# Altium schematic symbol library MyLib.SchLib: 65 symbols
Pins are listed as number, name and electrical type; pins without a type are passive.

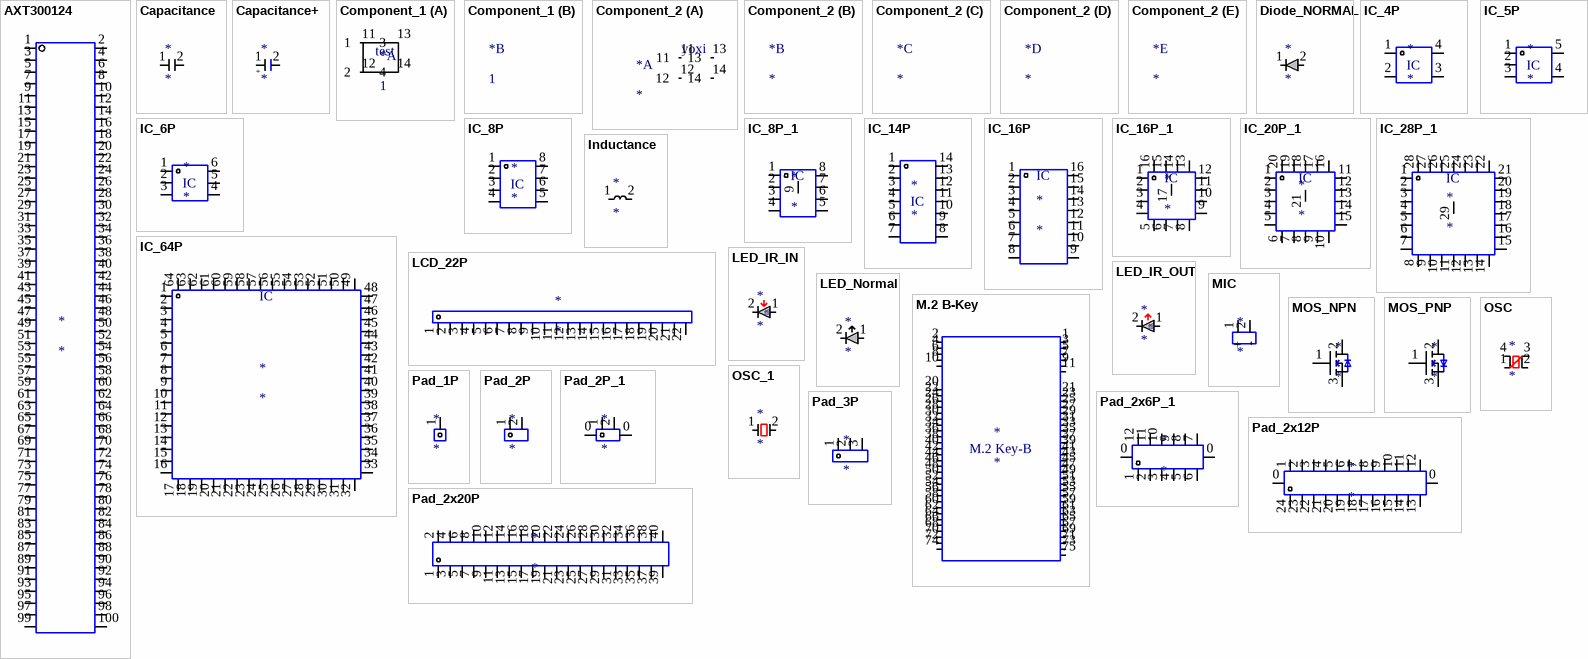
[diagram p0: symbols AXT300124 to Pad_3P]

## AXT300124
designator *
pins: 1, 2, 3, 4, 5, 6, 7, 8, 9, 10, 11, 12, 13, 14, 15, 16, 17, 18, 19, 20, 21, 22, 23, 24, 25, 26, 27, 28, 29, 30, 31, 32, 33, 34, 35, 36, 37, 38, 39, 40, 41, 42, 43, 44, 45, 46, 47, 48, 49, 50, 51, 52, 53, 54, 55, 56, 57, 58, 59, 60, 61, 62, 63, 64, 65, 66, 67, 68, 69, 70, 71, 72, 73, 74, 75, 76, 77, 78, 79, 80, 81, 82, 83, 84, 85, 86, 87, 88, 89, 90, 91, 92, 93, 94, 95, 96, 97, 98, 99, 100

## Capacitance
designator *
pins: 1, 2

## Capacitance+
designator *
pins: 1, 2
text: +

## Component_1
designator *, comment 1
part A pins: 11 1, 12 2, 13 3, 14 4
part A text: test

## Component_2
designator *
part A pins: 11, 12, 13, 14
part A text: yoxi

## Diode_NORMAL
designator *
pins: 1, 2

## IC_4P
designator *
pins: 1, 2, 3, 4
text: IC

## IC_5P
designator *
pins: 1, 2, 3, 4, 5
text: IC

## IC_6P
designator *
pins: 1, 2, 3, 4, 5, 6
text: IC

## IC_8P
designator *
pins: 1, 2, 3, 4, 5, 6, 7, 8
text: IC

## IC_8P_1
designator *
pins: 1, 2, 3, 4, 5, 6, 7, 8, 9
text: IC

## IC_14P
designator *
pins: 1, 2, 3, 4, 5, 6, 7, 8, 9, 10, 11, 12, 13, 14
text: IC

## IC_16P
designator *
pins: 1, 2, 3, 4, 5, 6, 7, 8, 9, 10, 11, 12, 13, 14, 15, 16
text: IC

## IC_16P_1
designator *
pins: 1, 2, 3, 4, 5, 6, 7, 8, 9, 10, 11, 12, 13, 14, 15, 16, 17
text: IC

## IC_20P_1
designator *
pins: 1, 2, 3, 4, 5, 6, 7, 8, 9, 10, 11, 12, 13, 14, 15, 16, 17, 18, 19, 20, 21
text: IC

## IC_28P_1
designator *
pins: 1, 2, 3, 4, 5, 6, 7, 8, 9, 10, 11, 12, 13, 14, 15, 16, 17, 18, 19, 20, 21, 22, 23, 24, 25, 26, 27, 28, 29
text: IC

## IC_64P
designator *
pins: 1, 2, 3, 4, 5, 6, 7, 8, 9, 10, 11, 12, 13, 14, 15, 16, 17, 18, 19, 20, 21, 22, 23, 24, 25, 26, 27, 28, 29, 30, 31, 32, 33, 34, 35, 36, 37, 38, 39, 40, 41, 42, 43, 44, 45, 46, 47, 48, 49, 50, 51, 52, 53, 54, 55, 56, 57, 58, 59, 60, 61, 62, 63, 64
text: IC

## Inductance
designator *
pins: 1, 2

## LCD_22P
designator *
pins: 1, 2, 3, 4, 5, 6, 7, 8, 9, 10, 11, 12, 13, 14, 15, 16, 17, 18, 19, 20, 21, 22

## LED_IR_IN
designator *
pins: 1, 2
text: IR

## LED_IR_OUT
designator *
pins: 1, 2
text: IR

## LED_Normal
designator *
pins: 1, 2

## M.2 B-Key
designator *
pins: 1, 2, 3, 4, 5, 6, 7, 8, 9, 10, 11, 20, 21, 22, 23, 24, 25, 26, 27, 28, 29, 30, 31, 32, 33, 34, 35, 36, 37, 38, 39, 40, 41, 42, 43, 44, 45, 46, 47, 48, 49, 50, 51, 52, 53, 54, 55, 56, 57, 58, 59, 60, 61, 62, 63, 64, 65, 66, 67, 68, 69, 70, 71, 72, 73, 74, 75
text: M.2 Key-B

## MIC
designator *
pins: 1 +, 2 -

## MOS_NPN
designator *
pins: 1 16, 2 17, 3 18

## MOS_PNP
designator *
pins: 1 16, 2 17, 3 18

## OSC
designator *
pins: 1, 2, 3, 4

## OSC_1
designator *
pins: 1, 2

## Pad_1P
designator *
pins: 1

## Pad_2P
designator *
pins: 1, 2

## Pad_2P_1
designator *
pins: 0, 0, 1, 2

## Pad_2x6P_1
designator *
pins: 0, 0, 1, 2, 3, 4, 5, 6, 7, 8, 9, 10, 11, 12

## Pad_2x12P
designator *
pins: 0, 0, 1, 2, 3, 4, 5, 6, 7, 8, 9, 10, 11, 12, 13, 14, 15, 16, 17, 18, 19, 20, 21, 22, 23, 24

## Pad_2x20P
designator *
pins: 1, 2, 3, 4, 5, 6, 7, 8, 9, 10, 11, 12, 13, 14, 15, 16, 17, 18, 19, 20, 21, 22, 23, 24, 25, 26, 27, 28, 29, 30, 31, 32, 33, 34, 35, 36, 37, 38, 39, 40

## Pad_3P
designator *
pins: 1, 2, 3

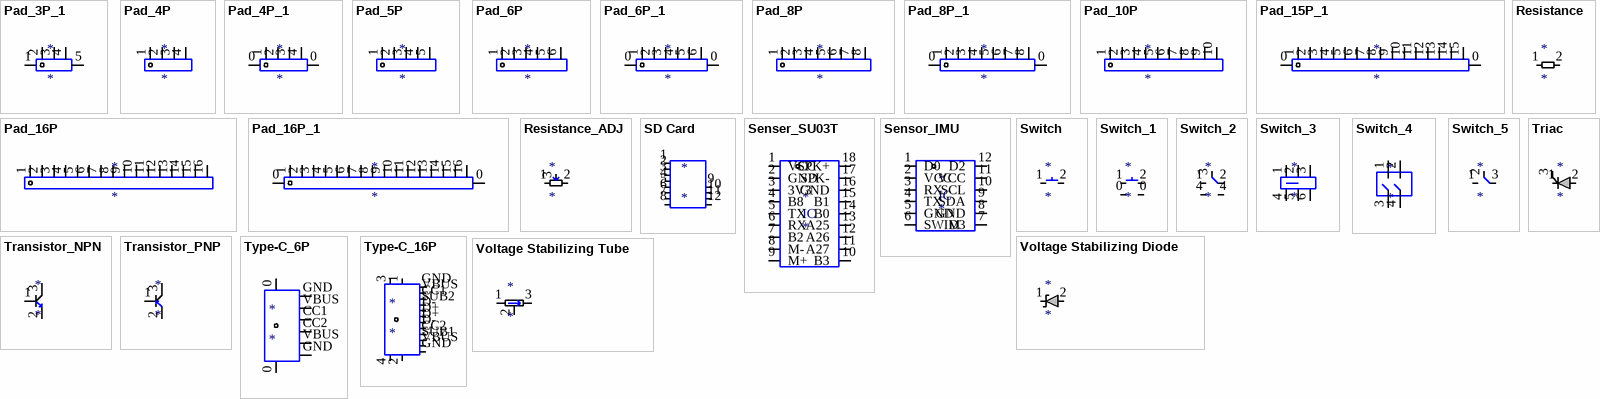
[diagram p1: symbols Pad_3P_1 to Voltage Stabilizing Tube]

## Pad_3P_1
designator *
pins: 1, 2, 3, 4, 5

## Pad_4P
designator *
pins: 1, 2, 3, 4

## Pad_4P_1
designator *
pins: 0, 0, 1, 2, 3, 4

## Pad_5P
designator *
pins: 1, 2, 3, 4, 5

## Pad_6P
designator *
pins: 1, 2, 3, 4, 5, 6

## Pad_6P_1
designator *
pins: 0, 0, 1, 2, 3, 4, 5, 6

## Pad_8P
designator *
pins: 1, 2, 3, 4, 5, 6, 7, 8

## Pad_8P_1
designator *
pins: 0, 0, 1, 2, 3, 4, 5, 6, 7, 8

## Pad_10P
designator *
pins: 1, 2, 3, 4, 5, 6, 7, 8, 9, 10

## Pad_15P_1
designator *
pins: 0, 0, 1, 2, 3, 4, 5, 6, 7, 8, 9, 10, 11, 12, 13, 14, 15

## Pad_16P
designator *
pins: 1, 2, 3, 4, 5, 6, 7, 8, 9, 10, 11, 12, 13, 14, 15, 16

## Pad_16P_1
designator *
pins: 0, 0, 1, 2, 3, 4, 5, 6, 7, 8, 9, 10, 11, 12, 13, 14, 15, 16

## Resistance
designator *
pins: 1, 2

## Resistance_ADJ
designator *
pins: 1, 2, 3

## SD Card
designator *
pins: 1, 2, 3, 4, 5, 6, 7, 8, 9, 10, 11, 12

## Senser_SU03T
designator *
pins: 1 VCC, 2 GND, 3 3V3, 4 B8, 5 TX, 6 RX, 7 B2, 8 M-, 9 M+, 10 B3, 11 A27, 12 A26, 13 A25, 14 B0, 15 B1, 16 GND, 17 SPK-, 18 SPK+
text: IC

## Sensor_IMU
designator *
pins: 1 D0, 2 VCC, 3 RX, 4 TX, 5 GND, 6 SWIM, 7 D3, 8 GND, 9 SDA, 10 SCL, 11 VCC, 12 D2
text: IC

## Switch
designator *
pins: 1, 2

## Switch_1
designator *
pins: 0, 0, 1, 2

## Switch_2
designator *
pins: 1, 2, 3, 4 0, 4 0

## Switch_3
designator *
pins: 1, 2, 3, 4, 5, 6

## Switch_4
designator *
pins: 1, 2, 3, 4

## Switch_5
designator *
pins: 1, 2, 3

## Transistor_NPN
designator *
pins: 1, 2, 3

## Transistor_PNP
designator *
pins: 1, 2, 3

## Triac
designator *
pins: 1, 2, 3

## Type-C_6P
designator *
pins: 0, 0, CC1, CC2, GND, GND, VBUS, VBUS

## Type-C_16P
designator *
pins: 1, 2, 3, 4, CC1, CC2, D+, D+, D-, D-, GND, GND, SUB1, SUB2, VBUS, VBUS

## Voltage Stabilizing Diode
designator *
pins: 1, 2

## Voltage Stabilizing Tube
designator *
pins: 1, 2, 3